# Altium schematic symbol library 4960 LED.SchLib: 1 symbol
Pins are listed as number, name and electrical type; pins without a type are passive.

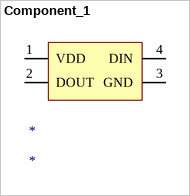
[diagram p0: symbol Component_1]

## Component_1
designator *
pins: 1 VDD, 2 DOUT, 3 GND, 4 DIN